# Altium integrated library Resistors.IntLib: 15 symbols
Pins are listed as number, name and electrical type; pins without a type are passive.

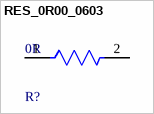
[diagram p0: symbol RES_0R00_0603]

## RES_0R00_0603
designator R?, comment 0R
RES SMD 0 OHM JUMPER 1/10W 0603; Manufacturer: Yageo; Manufacturer Part Number: RC0603FR-070RL; Tolerance: 1%; Value: 0Ω; Power Rating: 0.1W; Voltage Rating: 75V; Composition: Thick Film; Temperature Range Low: -55°C; Ipc Land Pattern Name: RESC16080X45; Lead Free: Yes; Digikey Description: RES SMD 0 OHM JUMPER 1/10W 0603; Height: 0.55mm; Automotive: No; Device Class L3: Chip SMD Resistors; Device Class L1: Passive Components; Device Class L2: Resistors; Footprint Url: http://www.yageo.com/exep/pages/download/literatures/PYu-R_Mount_10.pdf; Category: Res; Mouser Description: RC Series 0603 0.1 W 0 O Jumper Surface Mount Thick Film Chip Resistor; Resistance: 0Ω; ComponentLink2URL: http://www.yageo.com/documents/recent/PYu-RC_Group_51_RoHS_L_10.pdf; Series: RC_L; ComponentLink2Description: Datasheet; RoHS: TRUE; Temperature: -55°C to +155°C; Temperature Range High: +155°C; Package: RC0603; Octopart: https://octopart.com/rc0603fr-070rl-yageo-1180803
footprint FP-RC0603-MFG
footprint FP-RC0603-IPC_C
footprint FP-RC0603-IPC_B
footprint FP-RC0603-IPC_A
pins: 1, 2


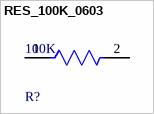
[diagram p1: symbol RES_100K_0603]

## RES_100K_0603
designator R?, comment 100K
RES SMD 100K OHM 1% 1/10W 0603; Voltage Rating (DC): 50V; Resistance: 100kR; Max Power Dissipation: 100mW; Temperature Coefficient: 100ppm/°C; Working Voltage: 75V; Length: 1.6mm; Lead Free: Lead Free; Number of Terminations: 2; Packaging: Tape and Reel; Voltage Rating: 50V; Termination: SMD/SMT; Width: 0.8mm; Resistor Type: Thick Film; Resistance Tolerance: 1%; Features: Moisture Resistant; Height: 0.45mm; Construction: Rectangular; Case/Package: 0603; Military Standard: Not; Case Code (Imperial): 0603; Series: RC; Technology: THICK FILM; Depth: 0.8mm; RoHS Compliant: Yes; REACH SVHC: No SVHC; Min Operating Temperature: -55°C; Case Code (Metric): 1608; Max Operating Temperature: 155°C; Power Rating: 100mW; Number of Pins: 2; Tolerance: 1%
footprint FP-RC0603-0_55-MFG
footprint FP-RC0603-0_55-IPC_B
footprint FP-RC0603-0_55-IPC_A
footprint FP-RC0603-0_55-IPC_C
pins: 1, 2


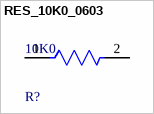
[diagram p2: symbol RES_10K0_0603]

## RES_10K0_0603
designator R?, comment 10K0
RES 10K OHM 1% 1/10W 0603; Voltage Rating: 75V; Voltage Rating (DC): 50V; Resistance: 10kR; Power Rating: 100mW; Temperature Coefficient: 100ppm/°C; Depth: 0.8mm; Termination: SMD/SMT; Resistor Type: Thick Film; Series: RC; Construction: Rectangular; Features: Moisture Resistant; Packaging: Tape and Reel; Min Operating Temperature: -55°C; Number of Terminations: 2; Lead Pitch: 0.3mm; RoHS Compliant: Yes; Case/Package: 0603; Resistance Tolerance: 1%; Military Standard: Not; Weight: 7.1E-05oz; Number of Pins: 2; Tolerance: 1%; Length: 1.6mm; Case Code (Imperial): 0603; Lead Free: Lead Free; Width: 0.8mm; Max Power Dissipation: 100mW; Height: 0.45mm; Max Operating Temperature: 155°C; Case Code (Metric): 1608; Size Code: 0603
footprint FP-RC0603-0_55-IPC_B
footprint FP-RC0603-0_55-MFG
footprint FP-RC0603-0_55-IPC_A
footprint FP-RC0603-0_55-IPC_C
pins: 1, 2


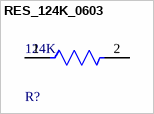
[diagram p3: symbol RES_124K_0603]

## RES_124K_0603
designator R?, comment 124K
-55℃~+155℃ 100mW 124kΩ 75V Thick Film Resistor ±1% ±100ppm/℃ 0603 Chip Resistor - Surface Mount ROHS; Voltage Rating: 50V; Temperature Coefficient: 100ppm/°C; Resistance: 124kR; Height: 0.022inch; Length: 0.063inch; Case Code (Imperial): 0603; Resistor Type: Thick Film; Case/Package: 0603; Number of Terminations: 2; Width: 0.8mm; Features: Moisture Resistant; Tolerance: 1%; Case Code (Metric): 1608; Max Operating Temperature: 155°C; Min Operating Temperature: -55°C; Series: AC; Max Power Dissipation: 100mW; Termination: SMD/SMT; Power Rating: 100mW; Packaging: Tape and Reel
footprint FP-AC0603-IPC_C
footprint FP-AC0603-IPC_B
footprint FP-AC0603-MFG
footprint FP-AC0603-IPC_A
pins: 1, 2


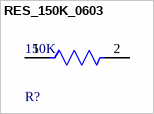
[diagram p4: symbol RES_150K_0603]

## RES_150K_0603
designator R?, comment 150K
NexarPartId: 40301068; Resistance: 150kΩ; Voltage Rating (AC): 50V; Max Power Dissipation: 100mW; Tolerance: 1%; Temperature Coefficient: 100ppm/°C; Max Operating Temperature: 155°C; Features: Moisture Resistant; Width: 800µm; Case Code (Imperial): 0603; Depth: 800µm; Number of Terminations: 2; Voltage Rating (DC): 50V; Mount: Surface Mount; Termination: SMD/SMT; REACH SVHC: No SVHC; Military Standard: Not; Case Code (Metric): 1608; Schedule B: 8533210045, 8533210045|8533210045, 8533210045|8533210045|8533210045, 8533210045|8533210045|8533210045|8533210045; Number of Pins: 2; Min Operating Temperature: -55°C; Lead Free: Lead Free; Packaging: Tape & Reel; Length: 1.6mm; Height: 450µm; Power Rating: 100mW; Voltage Rating: 50V; Case/Package: 0603; Composition: Thick Film; RoHS: Compliant
footprint FP-RC0603-0_55-IPC_C
footprint FP-RC0603-0_55-IPC_A
footprint FP-RC0603-0_55-IPC_B
footprint FP-RC0603-0_55-MFG
pins: 1, 2


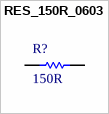
[diagram p5: symbol RES_150R_0603]

## RES_150R_0603
designator R?, comment 150R
Chip Resistor, 150 Ohm, +/- 1%, 0.1 W, -55 to 155 degC, 0603 (1608 Metric), RoHS, Tape and Reel; Viewing Angle: 20 degrees; Luminous Intensity: 200 mcd; Case\Package: Radial; Lens Style: Clear; Nominal Vf: 2.2 V; Illumination Colour: Green; PackageReference: 0603; PackageDescription: 2-Pin Surface Mount Device, Body 1.6 x 0.8 mm; Package Quantity: 1000; Packaging: Bulk; DatasheetVersion: Rev. 4, 02/2016; ComponentLink2URL: http://www.yageo.com/documents/recent/PYu-RC_Group_51_RoHS_L_04.pdf; ComponentLink1Description: Manufacturer URL; Height: 8.6 mm; ComponentLink2Description: Datasheet; Mount: Through Hole; Colour: Green; RoHSCompliant: true; ComponentLink1URL: http://www.yageo.com/; Forward Voltage: 2.2 V
footprint RESC1608X55X25NL10T15 (Chip Resistor, 2-Leads, Body 1.70x0.90mm, IPC Medium Density)
footprint RESC1608X55X25ML10T15 (Chip Resistor, 2-Leads, Body 1.70x0.90mm, IPC Low Density)
footprint RESC1608X55X25LL10T15 (Chip Resistor, 2-Leads, Body 1.70x0.90mm, IPC High Density)
pins: 1, 2


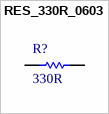
[diagram p6: symbol RES_330R_0603]

## RES_330R_0603
designator R?, comment 330R
Chip Resistor, 330 Ohm, +/- 1%, 0.1 W, -55 to 155 degC, 0603 (1608 Metric), RoHS, Tape and Reel; Tolerance: 10%; ESR: 800 mohm; Voltage Rating (DC): 16 V; Capacitance: 47 uF; Length: 7.3 mm; ComponentLink1URL: http://www.yageo.com/; Packaging: Tape and Reel; Pins: 2; ComponentLink1Description: Manufacturer URL; Case Code (Imperial): 2917; REACH SVHC: No SVHC; Width: 4.3 mm; ComponentLink2Description: Datasheet; Voltage Rating: 16 V; RoHSCompliant: True; Max Operating Temperature: 125degC; ComponentLink2URL: http://www.yageo.com/documents/recent/PYu-RC_Group_51_RoHS_L_04.pdf; Min Operating Temperature: -55degC; Case/Package: 2917; Radiation Hardening: No; DatasheetVersion: Rev. 4, 02/2016; Mount: Surface Mount; PackageReference: 0603; Package Quantity: 500; Case Code (Metric): 7343; PackageDescription: 2-Pin Surface Mount Device, Body 1.6 x 0.8 mm; Height: 3.1 mm
footprint RESC1608X55X25NL10T15 (Chip Resistor, 2-Leads, Body 1.70x0.90mm, IPC Medium Density)
footprint RESC1608X55X25ML10T15 (Chip Resistor, 2-Leads, Body 1.70x0.90mm, IPC Low Density)
footprint RESC1608X55X25LL10T15 (Chip Resistor, 2-Leads, Body 1.70x0.90mm, IPC High Density)
pins: 1, 2


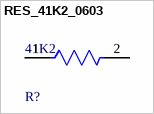
[diagram p7: symbol RES_41K2_0603]

## RES_41K2_0603
designator R?, comment 41K2
-55℃~+155℃ 100mW 41.2kΩ 75V Thick Film Resistor ±1% ±100ppm/℃ 0603 Chip Resistor - Surface Mount ROHS; NexarPartId: 55421749; Temperature Coefficient: 100ppm/°C; Voltage Rating (DC): 50V; Schedule B: 8533210045, 8533210045|8533210045|8533210045|8533210045|8533210045; Case Code (Imperial): 0603; REACH SVHC: No SVHC; Power Rating: 100mW; Mount: Surface Mount; Min Operating Temperature: -55°C; RoHS: Compliant; Military Standard: Not; Case Code (Metric): 1608; Features: Automotive AEC-Q200; Max Operating Temperature: 155°C; Lifecycle Status: Production; Number of Terminations: 2; Lead Free: Lead Free; Contact Plating: Tin; Length: 1.6mm; Width: 787.4µm; Case/Package: 0603; Termination: SMD/SMT; Max Power Dissipation: 100mW; Packaging: Cut Tape (CT); Tolerance: 1%; Depth: 800µm; Height: 558.8µm; Radiation Hardening: No; Voltage Rating: 75V; Resistance: 41.2kΩ; Composition: Thick Film
footprint FP-ERJ3EK-IPC_C
footprint FP-ERJ3EK-MFG
footprint FP-ERJ3EK-IPC_A
footprint FP-ERJ3EK-IPC_B
pins: 1, 2


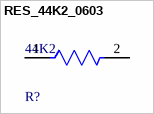
[diagram p8: symbol RES_44K2_0603]

## RES_44K2_0603
designator R?, comment 44K2
-55℃~+155℃ 100mW 44.2kΩ Thick Film Resistor ±1% ±100ppm/℃ 0603 Chip Resistor - Surface Mount ROHS; Resistance: 44.2kR; Voltage Rating: 75V; Temperature Coefficient: 100ppm/°C; Height: 0.45mm; Min Operating Temperature: -55°C; Contact Plating: Tin; Max Power Dissipation: 100mW; Termination: SMD/SMT; Case Code (Imperial): 0603; Max Operating Temperature: 155°C; Features: Automotive AEC-Q200; Power Rating: 100mW; Weight: 7.1E-05oz; Composition: Thick Film; Radiation Hardening: No; Length: 1.55mm; Lead Free: Lead Free; Case/Package: 0603; Depth: 0.85mm; Tolerance: 1%; Package Quantity: 10; Packaging: Tape and Reel; Case Code (Metric): 1608; Number of Terminations: 2; Voltage Rating (DC): 75V; Military Standard: Not; Width: 0.85mm
footprint FP-CRCW0603-e3-MFG
footprint FP-CRCW0603-e3-IPC_A
footprint FP-CRCW0603-e3-IPC_B
footprint FP-CRCW0603-e3-IPC_C
pins: 1, 2


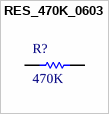
[diagram p9: symbol RES_470K_0603]

## RES_470K_0603
designator R?, comment 470K
Chip Resistor, 470 KOhm, +/- 1%, 0.1 W, -55 to 155 degC, 0603 (1608 Metric), RoHS, Tape and Reel; ComponentLink1Description: Manufacturer URL; ComponentLink2Description: Datasheet; ComponentLink2URL: http://www.yageo.com/documents/recent/PYu-RC_Group_51_RoHS_L_04.pdf; PackageReference: 0603; DatasheetVersion: Rev. 4, 02/2016; ComponentLink1URL: http://www.yageo.com/; PackageDescription: 2-Pin Surface Mount Device, Body 1.6 x 0.8 mm
footprint RESC1608X55X25NL10T15 (Chip Resistor, 2-Leads, Body 1.70x0.90mm, IPC Medium Density)
footprint RESC1608X55X25ML10T15 (Chip Resistor, 2-Leads, Body 1.70x0.90mm, IPC Low Density)
footprint RESC1608X55X25LL10T15 (Chip Resistor, 2-Leads, Body 1.70x0.90mm, IPC High Density)
pins: 1, 2


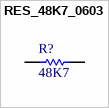
[diagram p10: symbol RES_48K7_0603]

## RES_48K7_0603
designator R?, comment 48K7
-55℃~+155℃ 100mW 48.7kΩ 75V Thick Film Resistor ±1% ±100ppm/℃ 0603 Chip Resistor - Surface Mount ROHS; Manufacturer: Yageo; Part Number: RC0603FR-0748K7L
footprint RESC1608X55X25NL10T15 (Chip Resistor, 2-Leads, Body 1.70x0.90mm, IPC Medium Density)
footprint RESC1608X55X25ML10T15 (Chip Resistor, 2-Leads, Body 1.70x0.90mm, IPC Low Density)
footprint RESC1608X55X25LL10T15 (Chip Resistor, 2-Leads, Body 1.70x0.90mm, IPC High Density)
pins: 1, 2
1 alternate drawing of the same symbol


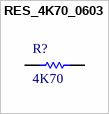
[diagram p11: symbol RES_4K70_0603]

## RES_4K70_0603
designator R?, comment 4K70
Chip Resistor, 4.7 KOhm, +/- 1%, 0.1 W, -55 to 155 degC, 0603 (1608 Metric), RoHS, Tape and Reel; Manufacturer: Yageo; Power Rating: 100mW; Temperature Coefficient: 100PPM/C; Resistance: 4.7kOhms; Voltage Rating: 50V; Package Reference: 0603; Series: RC; Datasheet Version: Rev. 7, 05/2017; Packaging: Reel; Termination Style: SMD/SMT; Datasheet URL: http://www.yageo.com/documents/recent/PYu-RC_Group_51_RoHS_L_7.pdf; Manufacturer URL: http://www.yageo.com/; Package Description: 2-Pin Surface Mount Device, Body 1.6 x 0.8 mm; Case Code - mm: 1608; Case Code - in: 0603; Mounting Technology: SurfaceMount; Operating Temperature Range: -55Cto+155C; Tolerance: 1%; Product: ThickFilmResistorsGeneralPurpose
footprint RESC1608X55X25NL10T15 (Chip Resistor, 2-Leads, Body 1.70x0.90mm, IPC Medium Density)
footprint RESC1608X55X25LL10T15 (Chip Resistor, 2-Leads, Body 1.60x0.80mm, IPC High Density)
footprint RESC1608X55X25ML10T15 (Chip Resistor, 2-Leads, Body 1.70x0.90mm, IPC Low Density)
pins: 1, 2


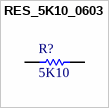
[diagram p12: symbol RES_5K10_0603]

## RES_5K10_0603
designator R?, comment 5K10
-55℃~+155℃ 100mW 5.1kΩ 75V Thick Film Resistor ±1% ±100ppm/℃ 0603 Chip Resistor - Surface Mount ROHS; Manufacturer: Yageo; Part Number: RC0603FR-075K1L
footprint RESC1608X55X25NL10T15 (Chip Resistor, 2-Leads, Body 1.70x0.90mm, IPC Medium Density)
footprint RESC1608X55X25ML10T15 (Chip Resistor, 2-Leads, Body 1.70x0.90mm, IPC Low Density)
footprint RESC1608X55X25LL10T15 (Chip Resistor, 2-Leads, Body 1.60x0.80mm, IPC High Density)
pins: 1, 2
1 alternate drawing of the same symbol


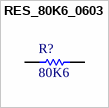
[diagram p13: symbol RES_80K6_0603]

## RES_80K6_0603
designator R?, comment 80K6
-55℃~+155℃ 100mW 75V 80.6kΩ Thick Film Resistor ±1% ±100ppm/℃ 0603 Chip Resistor - Surface Mount ROHS; Part Number: CRCW060380K6FKEA; Manufacturer: Vishay Dale
footprint RESC1609X50X30NL10T20 (Chip Resistor, 2-Leads, Body 1.55x0.85mm, IPC Medium Density)
footprint RESC1609X50X30LL10T20 (Chip Resistor, 2-Leads, Body 1.55x0.85mm, IPC High Density)
footprint RESC1609X50X30ML10T20 (Chip Resistor, 2-Leads, Body 1.55x0.85mm, IPC Low Density)
pins: 1, 2
1 alternate drawing of the same symbol


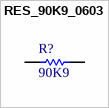
[diagram p14: symbol RES_90K9_0603]

## RES_90K9_0603
designator R?, comment 90K9
-55℃~+155℃ 100mW 75V 90.9kΩ Thick Film Resistor ±1% ±100ppm/℃ 0603 Chip Resistor - Surface Mount ROHS; Manufacturer: Yageo; Part Number: RC0603FR-0790K9L
footprint RESC1608X55X25NL10T15 (Chip Resistor, 2-Leads, Body 1.70x0.90mm, IPC Medium Density)
footprint RESC1608X55X25ML10T15 (Chip Resistor, 2-Leads, Body 1.70x0.90mm, IPC Low Density)
footprint RESC1608X55X25LL10T15 (Chip Resistor, 2-Leads, Body 1.70x0.90mm, IPC High Density)
pins: 1, 2
1 alternate drawing of the same symbol